# Altium footprint library 0.5间距24芯FPC座A.PcbLib: 1 footprints
Each footprint in its own frame and in the unit in brackets; x right, y up, seen from the top. Pads: shape width x height; smd on the part's side, far side on the other; paste and mask are expansions set on the pad; w line width, h text height; cw(c..) or ccw(c..) is an arc to the next point about the centre after c.
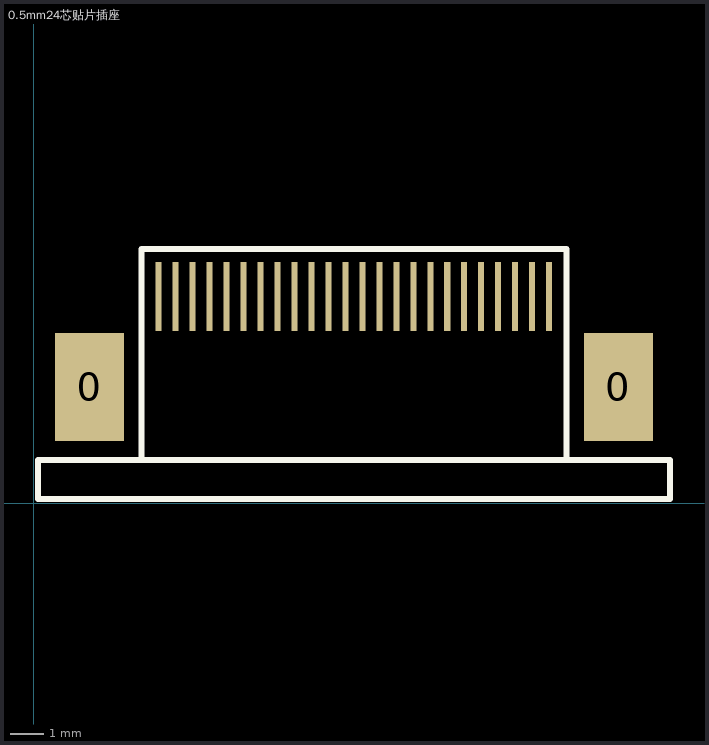
[diagram p0: the footprint, top view; thin cyan lines are the x and y axes]

## 0.5mm24芯贴片插座 [mil]
height 100
pads (26):
  rect 80x125 smd: 0(65,135) 0(678,135)
  rect 7x80 smd: 1(597.76,240) 2(578.07,240) 3(558.39,240) 4(538.7,240) 5(519.02,240) 6(499.33,240) 7(479.65,240) 8(459.96,240) 9(440.28,240) 10(420.59,240) 11(400.91,240) 12(381.22,240) 13(361.54,240) 14(341.85,240) 15(322.17,240) 16(302.48,240) 17(282.8,240) 18(263.11,240) 19(243.43,240) 20(223.74,240) 21(204.06,240) 22(184.37,240) 23(164.69,240) 24(145,240)
Top Overlay:
  lines w7: 125,50 125,295 618,295 618,50 ; 5,5 5,50 332.01,50 738,50 738,5 5,5